# EAGLE library part LP2951CSD (library IC)
National LP2951CSD - LDO regulator, LLP8 package
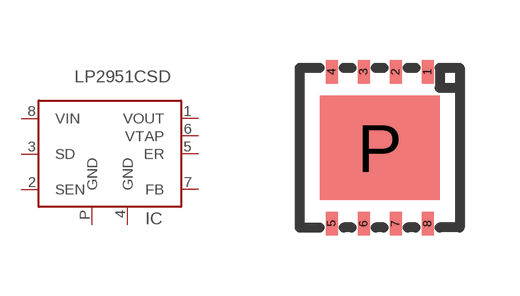
[diagram p118: symbol with the pads of LLP-8; footprint LLP-8]

Designator prefix IC

## LP2951CSD  [LLP-8]
1  VOUT  pwr
2  SEN
3  SD
4  GND  pwr
5  ER
6  VTAP
7  FB
8  VIN  pwr
P  GND  pwr

## Footprint LLP-8 (pad centres in mm)
LLP8 package (national semi)
smd 0.3 x 0.6: 1 1.2,1.9; 2 0.4,1.9; 3 -0.4,1.9; 4 -1.2,1.9; 5 -1.2,-1.9; 6 -0.4,-1.9; 7 0.4,-1.9; 8 1.2,-1.9
smd 3 x 2.6: P 0,0